# Altium footprint library PCB - CONNECTOR - USB - AMPHENOL 87583-x010xxx 3 USB2.0A.PCBLIB: 1 footprints
Each footprint in its own frame and in the unit in brackets; x right, y up, seen from the top. Pads: shape width x height; smd on the part's side, far side on the other; paste and mask are expansions set on the pad; w line width, h text height; cw(c..) or ccw(c..) is an arc to the next point about the centre after c.
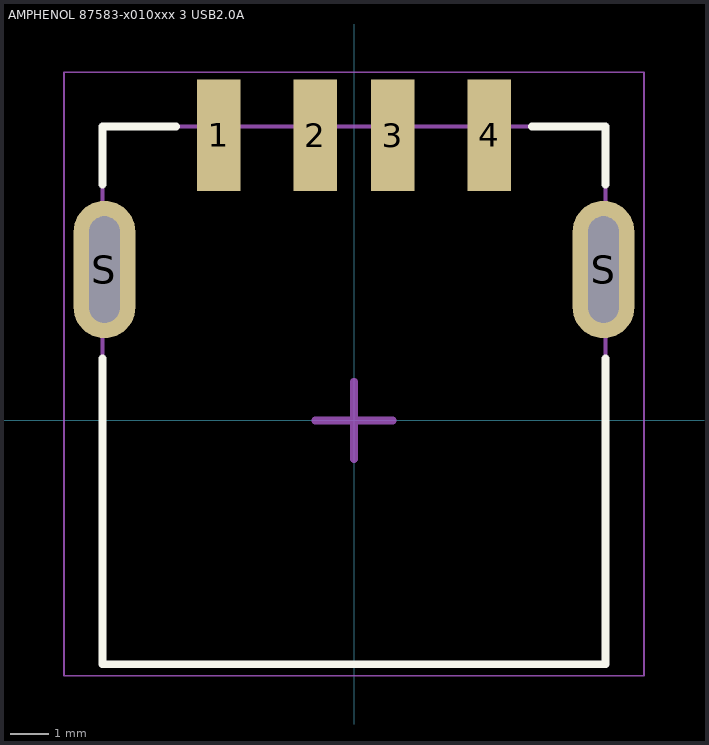
[diagram p0: the footprint, top view; thin cyan lines are the x and y axes]

## AMPHENOL 87583-x010xxx 3 USB2.0A [mm] "USB 2.0 Type A RCP 4 POS Solder RA SMD 4 Terminal 1 Port T/R"
height 7.74
pads (6):
  rect 1.12x2.88 smd: 1(-3.5,7.37) 2(-1,7.37) 3(1,7.37) 4(3.5,7.37)
  oval 1.6x3.55 hole 0.8 slot 2.75 at 90 deg: S(-6.45,3.9) S(6.45,3.9)
Top Overlay:
  lines w0.2: -6.5,1.6 -6.5,-6.3 6.5,-6.3 6.5,1.6 ; -6.5,6.1 -6.5,7.6 -4.6,7.6 ; 4.6,7.6 6.5,7.6 6.5,6.1
Mechanical 13:
  lines w0.1: -6.5,-6.3 -6.5,7.6 6.5,7.6 6.5,-6.3 -6.5,-6.3
Mechanical 15:
  lines w0.05: -7.5,-6.6 7.5,-6.6 7.5,9 -7.5,9 -7.5,-6.6
  lines w0.2: -1,0 1,0 ; 0,-1 0,1
3D body "Amphenol 87583-3010rpalf.step": height 7.74, standoff -2.63, extent -7.25,-6.34 7.25,8.543